# EAGLE library part BU6651NUX_BU6651NUX-TR (library UPDuino Camera Adapter 2 himax)
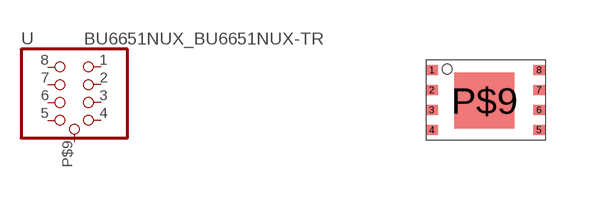
[diagram p0: symbol with the pads of BU6651NUX_BU6651NUX-TR; footprint BU6651NUX_BU6651NUX-TR]

Designator prefix -

## BU6651NUX_BU6651NUX-TR  [BU6651NUX_BU6651NUX-TR]
1  8  pas
2  7  pas
3  6  pas
4  5  pas
5  4  pas
6  3  pas
7  2  pas
8  1  pas
P$9  9  pas

## Footprint BU6651NUX_BU6651NUX-TR (pad centres in mm)
smd 0.3 x 0.25: 1 0.148,1.749; 2 0.148,1.249; 3 0.148,0.749; 4 0.148,0.249; 5 2.836,0.249; 6 2.836,0.749; 7 2.836,1.249; 8 2.836,1.749
smd 1.5 x 1.4: P$9 1.47,0.976